# Altium schematic symbol library IC芯片.SchLib: 9 symbols
Pins are listed as number, name and electrical type; pins without a type are passive.

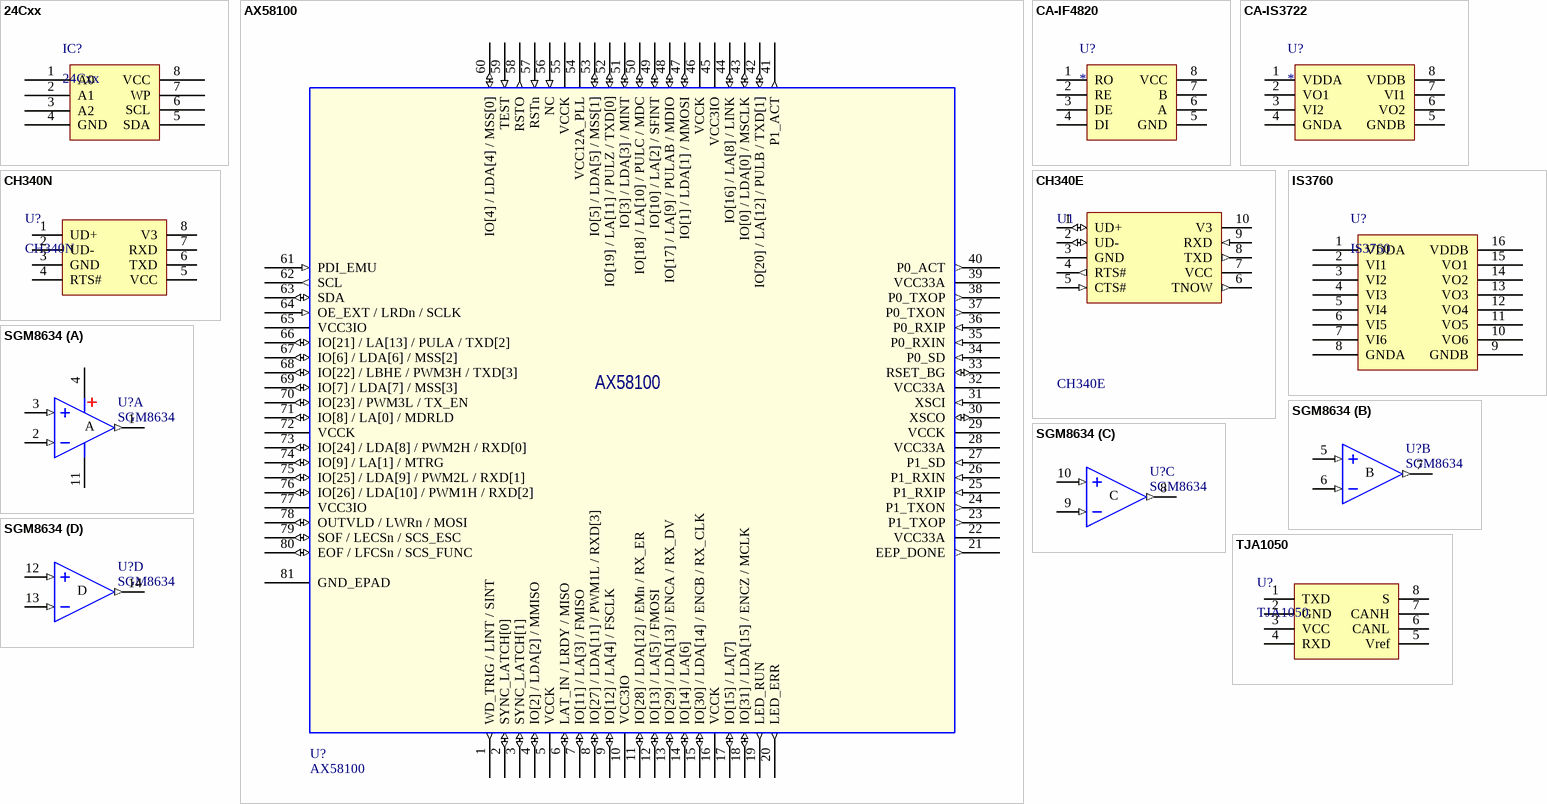
[diagram p0: symbols 24Cxx to TJA1050]

## 24Cxx
designator IC?
外置EEPROM; 版权归属: 源创客; BOM名称: 外置EEPROM; 学习资源: www.ooocke.com
footprint SOP8_L (5*6*1.8mm（长宽高）)
pins: 1 A0, 2 A1, 3 A2, 4 GND, 5 SDA, 6 SCL, 7 WP, 8 VCC (power)

## AX58100
designator U?
PCB Footprint: AX58100-QFP80
footprint TSQFP80
pins: 1 WD_TRIG / LINT / SINT (out), 2 SYNC_LATCH[0] (io), 3 SYNC_LATCH[1] (io), 4 IO[2] / LDA[2] / MMISO (io), 5 VCCK (power), 6 LAT_IN / LRDY / MISO (io), 7 IO[11] / LA[3] / FMISO (io), 8 IO[27] / LDA[11] / PWM1L / RXD[3] (io), 9 IO[12] / LA[4] / FSCLK (io), 10 VCC3IO (power), 11 IO[28] / LDA[12] / EMn / RX_ER (io), 12 IO[13] / LA[5] / FMOSI (io), 13 IO[29] / LDA[13] / ENCA / RX_DV (io), 14 IO[14] / LA[6] (io), 15 IO[30] / LDA[14] / ENCB / RX_CLK (io), 16 VCCK (power), 17 IO[15] / LA[7] (io), 18 IO[31] / LDA[15] / ENCZ / MCLK (io), 19 LED_RUN (out), 20 LED_ERR (out), 21 EEP_DONE (out), 22 VCC33A (power), 23 P1_TXOP (out), 24 P1_TXON (out), 25 P1_RXIP (in), 26 P1_RXIN (in), 27 P1_SD (in), 28 VCC33A (power), 29 VCCK (power), 30 XSCO (io), 31 XSCI (in), 32 VCC33A (power), 33 RSET_BG (io), 34 P0_SD (in), 35 P0_RXIN (in), 36 P0_RXIP (in), 37 P0_TXON (out), 38 P0_TXOP (out), 39 VCC33A (power), 40 P0_ACT (out), 41 P1_ACT (out), 42 IO[20] / LA[12] / PULB / TXD[1] (io), 43 IO[0] / LDA[0] / MSCLK (io), 44 IO[16] / LA[8] / LINK (io), 45 VCC3IO (power), 46 VCCK (power), 47 IO[1] / LDA[1] / MMOSI (io), 48 IO[17] / LA[9] / PULAB / MDIO (io), 49 IO[10] / LA[2] / SFINT (io), 50 IO[18] / LA[10] / PULC / MDC (io), 51 IO[3] / LDA[3] / MINT (io), 52 IO[19] / LA[11] / PULZ / TXD[0] (io), 53 IO[5] / LDA[5] / MSS[1] (io), 54 VCC12A_PLL (power), 55 VCCK (power), 56 NC (in), 57 RSTn (in), 58 RSTO (out), 59 TEST (in), 60 IO[4] / LDA[4] / MSS[0] (io), 61 PDI_EMU (in), 62 SCL (out), 63 SDA (io), 64 OE_EXT / LRDn / SCLK (in), 65 VCC3IO (power), 66 IO[21] / LA[13] / PULA / TXD[2] (io), 67 IO[6] / LDA[6] / MSS[2] (io), 68 IO[22] / LBHE / PWM3H / TXD[3] (io), 69 IO[7] / LDA[7] / MSS[3] (io), 70 IO[23] / PWM3L / TX_EN (io), 71 IO[8] / LA[0] / MDRLD (io), 72 VCCK (power), 73 IO[24] / LDA[8] / PWM2H / RXD[0] (io), 74 IO[9] / LA[1] / MTRG (io), 75 IO[25] / LDA[9] / PWM2L / RXD[1] (io), 76 IO[26] / LDA[10] / PWM1H / RXD[2] (io), 77 VCC3IO (power), 78 OUTVLD / LWRn / MOSI (io), 79 SOF / LECSn / SCS_ESC (io), 80 EOF / LFCSn / SCS_FUNC (io), 81 GND_EPAD (power)

## CA-IF4820
designator U?
485总线芯片
footprint SOP8_L (5*6*1.8mm（长宽高）)
pins: 1 RO, 2 RE, 3 DE, 4 DI, 5 GND, 6 A, 7 B, 8 VCC

## CA-IS3722
designator U?
隔离芯片
footprint SOIC8_L W=3.9mm (SOIC, 8-Leads, Body 4.9x3.9mm, Pitch 1.27mm, IPC High Density)
pins: 1 VDDA, 2 VO1, 3 VI2, 4 GNDA, 5 GNDB, 6 VO2, 7 VI1, 8 VDDB

## CH340E
designator U1
USB to TTL Serial / UART
footprint MSOP10
pins: 1 UD+ (io), 2 UD- (io), 3 GND (power), 4 RTS# (out), 5 CTS# (in), 6 TNOW (out), 7 VCC (power), 8 TXD (out), 9 RXD (in), 10 V3 (power)

## CH340N
designator U?
串口转USB; 版权归属: 源创客; BOM名称: 串口转USB; 学习资源: www.ooocke.com
footprint SOP8_N (5*6*1.8mm（长宽高）)
pins: 1 UD+, 2 UD-, 3 GND, 4 RTS#, 5 VCC, 6 TXD, 7 RXD, 8 V3

## IS3760
designator U?
footprint SOIC-16 W=3.9mm
pins: 1 VDDA, 2 VI1, 3 VI2, 4 VI3, 5 VI4, 6 VI5, 7 VI6, 8 GNDA, 9 GNDB, 10 VO6, 11 VO5, 12 VO4, 13 VO3, 14 VO2, 15 VO1, 16 VDDB

## SGM8634
designator U?
四路运放
footprint TSSOP14_L (5*6.4*1mm（长宽高）)
part A pins: 1 OUT (out), 2 IN- (in), 3 IN+ (in), 4 V+ (power), 11 V- (power)
part B pins: 5 IN+ (in), 6 IN- (in), 7 OUT (out)
part C pins: 8 OUT (out), 9 IN- (in), 10 IN+ (in)
part D pins: 12 IN+ (in), 13 IN- (in), 14 OUT (out)
part A text: A
part B text: B
part C text: C
part D text: D

## TJA1050
designator U?
footprint SOIC8_L W=3.9mm (SOIC, 8-Leads, Body 4.9x3.9mm, Pitch 1.27mm, IPC High Density)
pins: 1 TXD, 2 GND, 3 VCC, 4 RXD, 5 Vref, 6 CANL, 7 CANH, 8 S